# EAGLE library part EPM570-T100 (library altera-max2)
Altera MAX II CPLD - EPM570 TQFP-100 Device EPM570 from Altera MAX II Family Feature EPM570 LEs 570 Typical Equivalent Macrocells 440 Equivalent Macrocell Range 240 ... 570 UFM Size (bits) 8192 User I/O pins 76 tPD1 (ns) 5.4 fCNT (MHz) 304 tSU (ns) 1.2 tCO (ns) 4.5
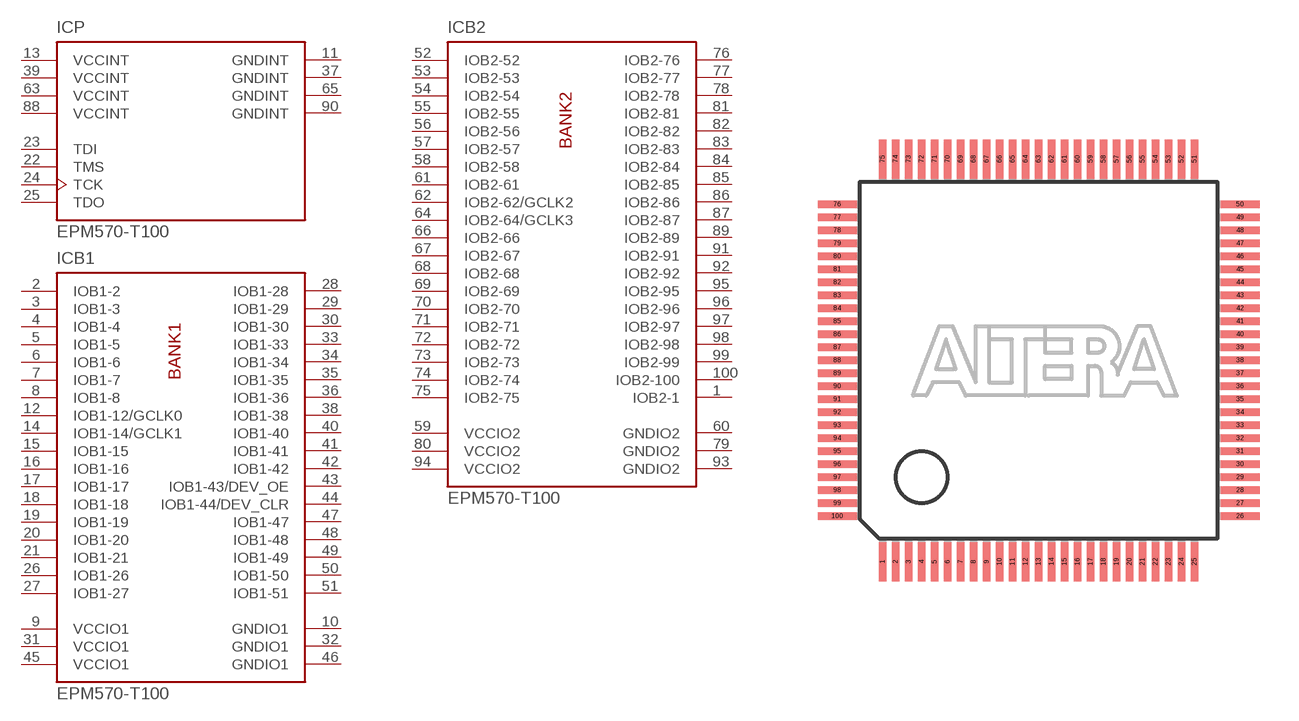
[diagram p1: symbol with the pads of TQFP100; footprint TQFP100]

Designator prefix IC; gates P=EPM1270-TQFP-P B1=EPM570-T100-B1 B2=EPM570-T100-B2

## EPM570-T100  [TQFP100]
1  B2:IOB2-1
2  B1:IOB1-2
3  B1:IOB1-3
4  B1:IOB1-4
5  B1:IOB1-5
6  B1:IOB1-6
7  B1:IOB1-7
8  B1:IOB1-8
9  B1:VCCIO1  pwr
10  B1:GNDIO1  pwr
11  P:GNDINT  pwr
12  B1:IOB1-12/GCLK0
13  P:VCCINT  pwr
14  B1:IOB1-14/GCLK1
15  B1:IOB1-15
16  B1:IOB1-16
17  B1:IOB1-17
18  B1:IOB1-18
19  B1:IOB1-19
20  B1:IOB1-20
21  B1:IOB1-21
22  P:TMS  in
23  P:TDI  in
24  P:TCK  in
25  P:TDO  out
26  B1:IOB1-26
27  B1:IOB1-27
28  B1:IOB1-28
29  B1:IOB1-29
30  B1:IOB1-30
31  B1:VCCIO1  pwr
32  B1:GNDIO1  pwr
33  B1:IOB1-33
34  B1:IOB1-34
35  B1:IOB1-35
36  B1:IOB1-36
37  P:GNDINT  pwr
38  B1:IOB1-38
39  P:VCCINT  pwr
40  B1:IOB1-40
41  B1:IOB1-41
42  B1:IOB1-42
43  B1:IOB1-43/DEV_OE
44  B1:IOB1-44/DEV_CLR
45  B1:VCCIO1  pwr
46  B1:GNDIO1  pwr
47  B1:IOB1-47
48  B1:IOB1-48
49  B1:IOB1-49
50  B1:IOB1-50
51  B1:IOB1-51
52  B2:IOB2-52
53  B2:IOB2-53
54  B2:IOB2-54
55  B2:IOB2-55
56  B2:IOB2-56
57  B2:IOB2-57
58  B2:IOB2-58
59  B2:VCCIO2  pwr
60  B2:GNDIO2  pwr
61  B2:IOB2-61
62  B2:IOB2-62/GCLK2
63  P:VCCINT  pwr
64  B2:IOB2-64/GCLK3
65  P:GNDINT  pwr
66  B2:IOB2-66
67  B2:IOB2-67
68  B2:IOB2-68
69  B2:IOB2-69
70  B2:IOB2-70
71  B2:IOB2-71
72  B2:IOB2-72
73  B2:IOB2-73
74  B2:IOB2-74
75  B2:IOB2-75
76  B2:IOB2-76
77  B2:IOB2-77
78  B2:IOB2-78
79  B2:GNDIO2  pwr
80  B2:VCCIO2  pwr
81  B2:IOB2-81
82  B2:IOB2-82
83  B2:IOB2-83
84  B2:IOB2-84
85  B2:IOB2-85
86  B2:IOB2-86
87  B2:IOB2-87
88  P:VCCINT  pwr
89  B2:IOB2-89
90  P:GNDINT  pwr
91  B2:IOB2-91
92  B2:IOB2-92
93  B2:GNDIO2  pwr
94  B2:VCCIO2  pwr
95  B2:IOB2-95
96  B2:IOB2-96
97  B2:IOB2-97
98  B2:IOB2-98
99  B2:IOB2-99
100  B2:IOB2-100

## Footprint TQFP100 (pad centres in mm)
Thin Quad Flat Pack
smd 0.27 x 1.5: 1 -6,-7.75; 2 -5.5,-7.75; 3 -5,-7.75; 4 -4.5,-7.75; 5 -4,-7.75; 6 -3.5,-7.75; 7 -3,-7.75; 8 -2.5,-7.75; 9 -2,-7.75; 10 -1.5,-7.75; 11 -1,-7.75; 12 -0.5,-7.75; 13 0,-7.75; 14 0.5,-7.75; 15 1,-7.75; 16 1.5,-7.75; 17 2,-7.75; 18 2.5,-7.75; 19 3,-7.75; 20 3.5,-7.75; 21 4,-7.75; 22 4.5,-7.75; 23 5,-7.75; 24 5.5,-7.75; 25 6,-7.75; 51 6,7.75; 52 5.5,7.75; 53 5,7.75; 54 4.5,7.75; 55 4,7.75; 56 3.5,7.75; 57 3,7.75; 58 2.5,7.75; 59 2,7.75; 60 1.5,7.75; 61 1,7.75; 62 0.5,7.75; 63 0,7.75; 64 -0.5,7.75; 65 -1,7.75; 66 -1.5,7.75; 67 -2,7.75; 68 -2.5,7.75; 69 -3,7.75; 70 -3.5,7.75; 71 -4,7.75; 72 -4.5,7.75; 73 -5,7.75; 74 -5.5,7.75; 75 -6,7.75
smd 1.5 x 0.27: 26 7.75,-6; 27 7.75,-5.5; 28 7.75,-5; 29 7.75,-4.5; 30 7.75,-4; 31 7.75,-3.5; 32 7.75,-3; 33 7.75,-2.5; 34 7.75,-2; 35 7.75,-1.5; 36 7.75,-1; 37 7.75,-0.5; 38 7.75,0; 39 7.75,0.5; 40 7.75,1; 41 7.75,1.5; 42 7.75,2; 43 7.75,2.5; 44 7.75,3; 45 7.75,3.5; 46 7.75,4; 47 7.75,4.5; 48 7.75,5; 49 7.75,5.5; 50 7.75,6; 76 -7.75,6; 77 -7.75,5.5; 78 -7.75,5; 79 -7.75,4.5; 80 -7.75,4; 81 -7.75,3.5; 82 -7.75,3; 83 -7.75,2.5; 84 -7.75,2; 85 -7.75,1.5; 86 -7.75,1; 87 -7.75,0.5; 88 -7.75,0; 89 -7.75,-0.5; 90 -7.75,-1; 91 -7.75,-1.5; 92 -7.75,-2; 93 -7.75,-2.5; 94 -7.75,-3; 95 -7.75,-3.5; 96 -7.75,-4; 97 -7.75,-4.5; 98 -7.75,-5; 99 -7.75,-5.5; 100 -7.75,-6